# Altium schematic symbol library Res_Bourns_PTV09A-4020F-A504_eec.SchLib: 1 symbol
Pins are listed as number, name and electrical type; pins without a type are passive.

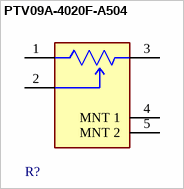
[diagram p0: symbol PTV09A-4020F-A504]

## PTV09A-4020F-A504
designator R?  (value not drawn)
footprint Bourns_0_MFG
pins: 1, 2, 3, 4 MNT 1, 5 MNT 2